# EAGLE library part PINHD-2X20 (library pinhead)
PIN HEADER
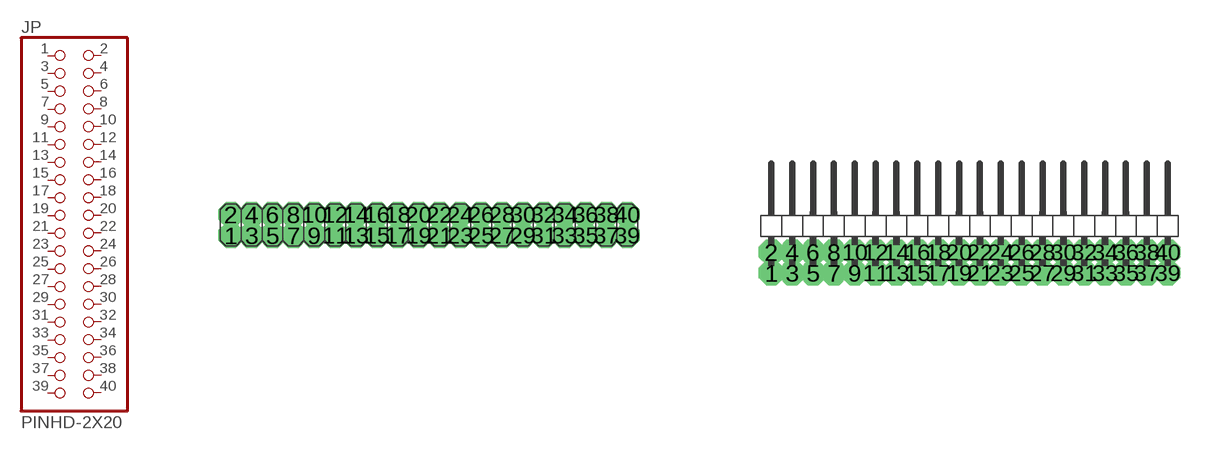
[diagram p37: symbol with the pads of 2X20; footprints 2X20, 2X20/90]

Designator prefix JP

## PINHD-2X20  [2X20]
1  1  pas
2  2  pas
3  3  pas
4  4  pas
5  5  pas
6  6  pas
7  7  pas
8  8  pas
9  9  pas
10  10  pas
11  11  pas
12  12  pas
13  13  pas
14  14  pas
15  15  pas
16  16  pas
17  17  pas
18  18  pas
19  19  pas
20  20  pas
21  21  pas
22  22  pas
23  23  pas
24  24  pas
25  25  pas
26  26  pas
27  27  pas
28  28  pas
29  29  pas
30  30  pas
31  31  pas
32  32  pas
33  33  pas
34  34  pas
35  35  pas
36  36  pas
37  37  pas
38  38  pas
39  39  pas
40  40  pas

## PINHD-2X20/90  [2X20/90]
Pads as for 2X20

## Footprint 2X20 (pad centres in mm)
PIN HEADER
drill 0.254 octagon: 1 -6.032,-0.318; 2 -6.032,0.318; 3 -5.397,-0.318; 4 -5.397,0.318; 5 -4.763,-0.318; 6 -4.763,0.318; 7 -4.128,-0.318; 8 -4.128,0.318; 9 -3.493,-0.318; 10 -3.493,0.318; 11 -2.857,-0.318; 12 -2.857,0.318; 13 -2.223,-0.318; 14 -2.223,0.318; 15 -1.587,-0.318; 16 -1.587,0.318; 17 -0.953,-0.318; 18 -0.953,0.318; 19 -0.318,-0.318; 20 -0.318,0.318; 21 0.318,-0.318; 22 0.318,0.318; 23 0.953,-0.318; 24 0.953,0.318; 25 1.587,-0.318; 26 1.587,0.318; 27 2.223,-0.318; 28 2.223,0.318; 29 2.857,-0.318; 30 2.857,0.318; 31 3.493,-0.318; 32 3.493,0.318; 33 4.128,-0.318; 34 4.128,0.318; 35 4.763,-0.318; 36 4.763,0.318; 37 5.397,-0.318; 38 5.397,0.318; 39 6.032,-0.318; 40 6.032,0.318

## Footprint 2X20/90 (pad centres in mm)
PIN HEADER
drill 0.254 octagon: 1 -6.032,-1.587; 2 -6.032,-0.953; 3 -5.397,-1.587; 4 -5.397,-0.953; 5 -4.763,-1.587; 6 -4.763,-0.953; 7 -4.128,-1.587; 8 -4.128,-0.953; 9 -3.493,-1.587; 10 -3.493,-0.953; 11 -2.857,-1.587; 12 -2.857,-0.953; 13 -2.223,-1.587; 14 -2.223,-0.953; 15 -1.587,-1.587; 16 -1.587,-0.953; 17 -0.953,-1.587; 18 -0.953,-0.953; 19 -0.318,-1.587; 20 -0.318,-0.953; 21 0.318,-1.587; 22 0.318,-0.953; 23 0.953,-1.587; 24 0.953,-0.953; 25 1.587,-1.587; 26 1.587,-0.953; 27 2.223,-1.587; 28 2.223,-0.953; 29 2.857,-1.587; 30 2.857,-0.953; 31 3.493,-1.587; 32 3.493,-0.953; 33 4.128,-1.587; 34 4.128,-0.953; 35 4.763,-1.587; 36 4.763,-0.953; 37 5.397,-1.587; 38 5.397,-0.953; 39 6.032,-1.587; 40 6.032,-0.953